# EAGLE library part SN75LBC175 (library scono)
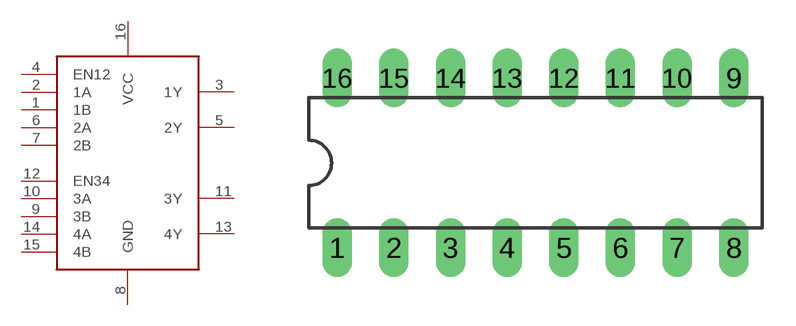
[diagram p0: symbol with the pads of DIL16; footprint DIL16]

Designator prefix -

## SN75LBC175  [DIL16]
1  1B
2  1A
3  1Y
4  EN12
5  2Y
6  2A
7  2B
8  GND
9  3B
10  3A
11  3Y
12  EN34
13  4Y
14  4A
15  4B
16  VCC

## Footprint DIL16 (pad centres in mm)
drill 0.813 long: 1 -8.89,-3.81; 2 -6.35,-3.81; 3 -3.81,-3.81; 4 -1.27,-3.81; 5 1.27,-3.81; 6 3.81,-3.81; 7 6.35,-3.81; 8 8.89,-3.81; 9 8.89,3.81; 10 6.35,3.81; 11 3.81,3.81; 12 1.27,3.81; 13 -1.27,3.81; 14 -3.81,3.81; 15 -6.35,3.81; 16 -8.89,3.81